# Altium footprint library Capacitors.PcbLib: 39 footprints (part 1 of 3)
Each footprint in its own frame and in the unit in brackets; x right, y up, seen from the top. Pads: shape width x height; smd on the part's side, far side on the other; paste and mask are expansions set on the pad; w line width, h text height; cw(c..) or ccw(c..) is an arc to the next point about the centre after c.
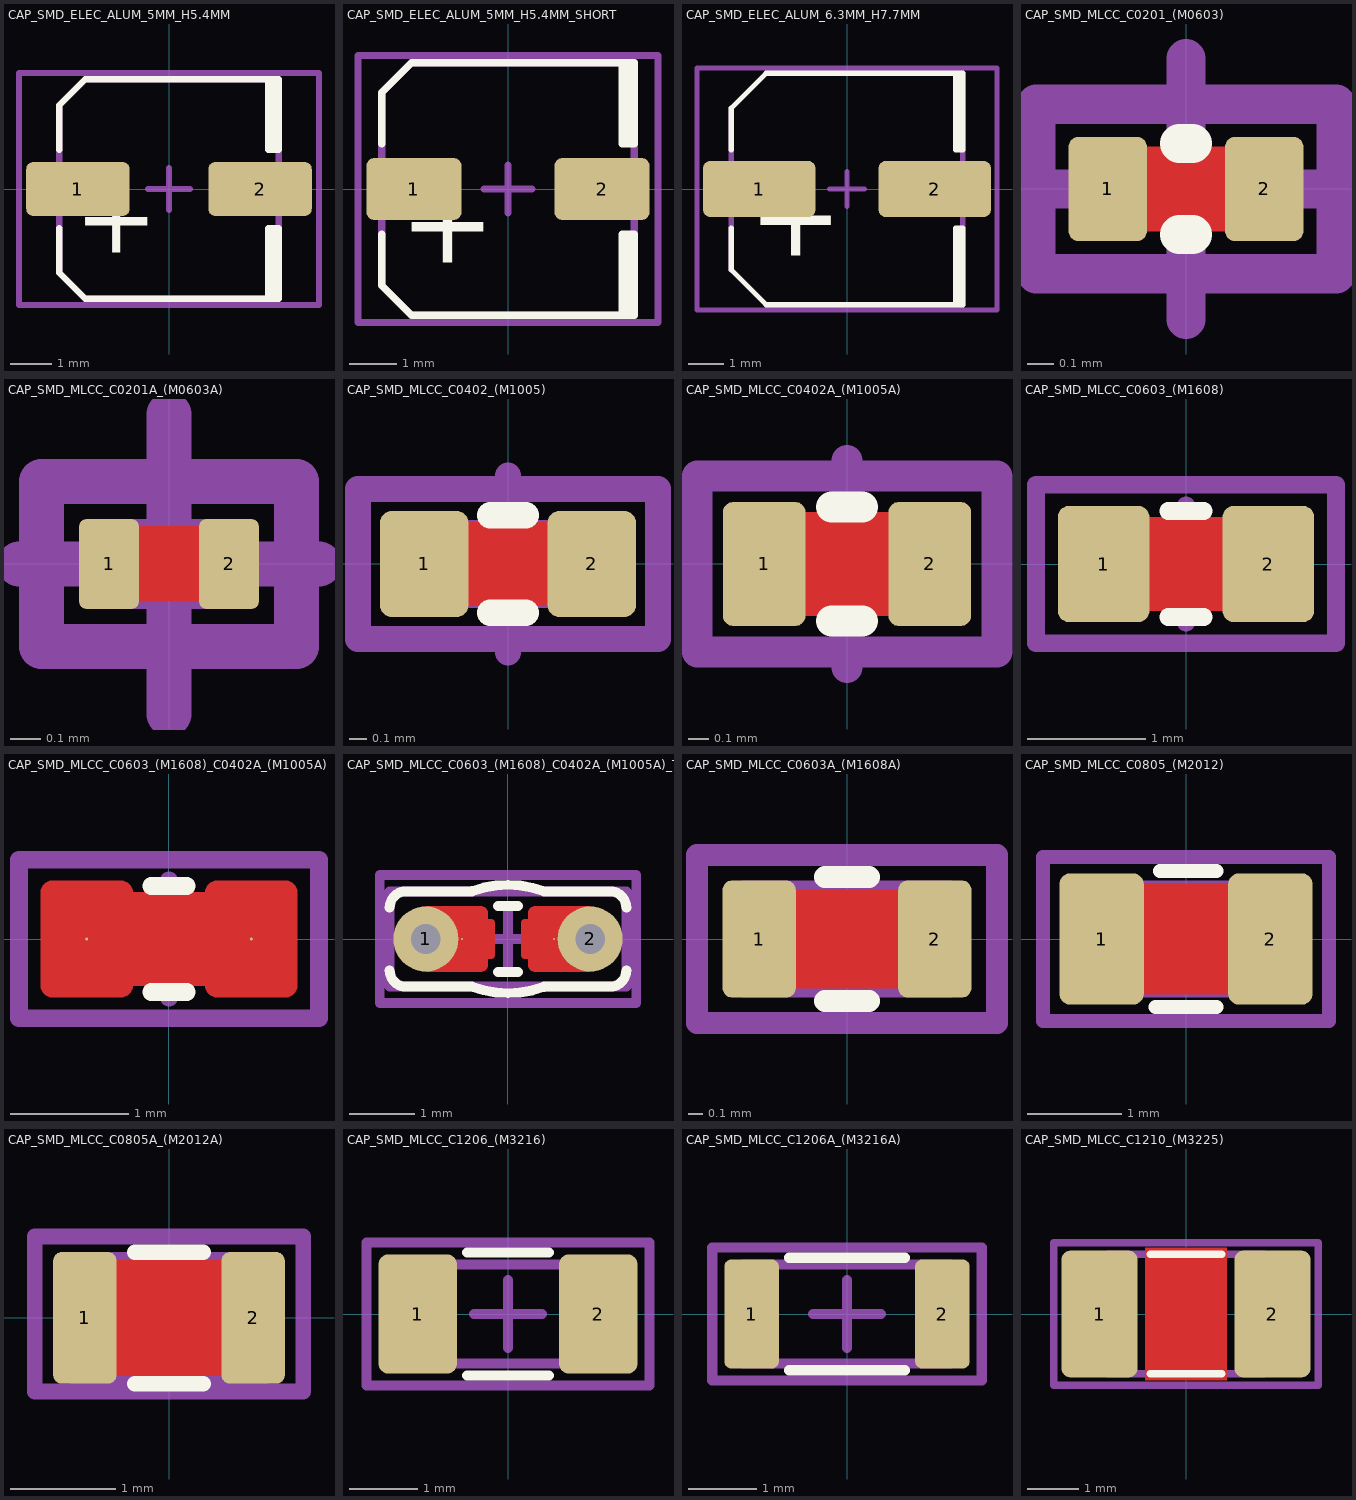
[diagram p0: the footprints below, top view; thin cyan lines are the x and y axes]

## CAP_SMD_ELEC_ALUM_5MM_H5.4MM [mm] "Aluminum SMD Electrolytic Capacitor, 5.30mm Land Size, 5.00mm Diameter, 4.60mm Height, 5.50mm Maximum Leads Span"
height 4.6
pads (2):
  rrect25% 2.5x1.3 smd: 1(-2.2,0) 2(2.2,0)
Top Overlay:
  lines w0.15: -2.65,-0.95 -2.65,-2.025 -2.025,-2.65 2.65,-2.65 2.65,-0.95 2.4,-0.95 2.4,-2.65 ; -2.65,0.95 -2.65,2.025 -2.025,2.65 2.65,2.65 2.65,0.95 2.4,0.95 2.4,2.65 ; 2.525,-2.65 2.525,-0.95 ; 2.525,0.95 2.525,2.65
  text "+" at -2.275,-2.125 h3
Top Designator:
  text ".Designator" at -2.503,-0.266 h1.3
Mechanical 13:
  lines w0.15: -2.65,-2.025 -2.65,2.025 -2.025,2.65 2.65,2.65 2.65,-2.65 -2.025,-2.65 -2.65,-2.025
Mechanical 15:
  lines w0.15: -0.5,0 0.5,0 ; 0,-0.5 0,0.5 ; -3.625,-2.8 -3.625,2.8 3.625,2.8 3.625,-2.8 -3.625,-2.8
3D body ".STEP": height 4.6, standoff 0, extent -2.75,-2.65 2.75,2.65

## CAP_SMD_ELEC_ALUM_5MM_H5.4MM_SHORT [mm] "Aluminum SMD Electrolytic Capacitor, 5.30mm Land Size, 5.00mm Diameter, 4.60mm Height, 5.50mm Maximum Leads Span"
height 4.6
pads (2):
  rrect25% 2x1.3 smd: 1(-1.975,0) 2(1.975,0)
Top Overlay:
  lines w0.15: -2.65,-0.95 -2.65,-2.025 -2.025,-2.65 2.65,-2.65 2.65,-0.95 2.4,-0.95 2.4,-2.65 ; -2.65,0.95 -2.65,2.025 -2.025,2.65 2.65,2.65 2.65,0.95 2.4,0.95 2.4,2.65 ; 2.525,-2.65 2.525,-0.95 ; 2.525,0.95 2.525,2.65
  text "+" at -2.275,-2.125 h3
Top Designator:
  text ".Designator" at -2.503,-0.266 h1.3
Mechanical 13:
  lines w0.15: -2.65,-2.025 -2.025,-2.65 2.65,-2.65 2.65,2.65 -2.025,2.65 -2.65,2.025 -2.65,-2.025
Mechanical 15:
  lines w0.15: -0.5,0 0.5,0 ; 0,-0.5 0,0.5 ; -3.15,-2.8 3.15,-2.8 3.15,2.8 -3.15,2.8 -3.15,-2.8
3D body ".STEP": height 4.6, standoff 0, extent -2.75,-2.65 2.75,2.65

## CAP_SMD_ELEC_ALUM_6.3MM_H7.7MM [mm] "Aluminum SMD Electrolytic Capacitor, D: 6.3mm L: 7.7mm, Size D"
pads (2):
  rrect25% 3.2x1.6 smd: 1(-2.5,0) 2(2.5,0)
Top Overlay:
  lines w0.15: -3.3,-1.12 -3.3,-2.3 -2.3,-3.3 3.3,-3.3 3.3,-1.12 3.1,-1.12 3.1,-3.3 ; -3.3,1.12 -3.3,2.3 -2.3,3.3 3.3,3.3 3.3,1.12 3.1,1.12 3.1,3.3 ; 3.2,-3.3 3.2,-1.12 ; 3.2,1.12 3.2,3.3
  text "+" at -2.8,-2.675 h4
Top Designator:
  text ".Designator" at -2.462,-0.29 h1.3
Mechanical 13:
  lines w0.15: -3.3,-2.3 -2.3,-3.3 3.3,-3.3 3.3,3.3 -2.3,3.3 -3.3,2.3 -3.3,-2.3
Mechanical 15:
  lines w0.15: -0.5,0 0.5,0 ; 0,-0.5 0,0.5 ; -4.275,-3.45 4.275,-3.45 4.275,3.45 -4.275,3.45 -4.275,-3.45
3D body "6.3x7.7x2.2.stp": height 7.7, standoff 0, extent -3.65,-3.3 3.65,3.3

## CAP_SMD_MLCC_C0201_(M0603) [mm] "CHIP Capacitor, 0.5x0.25mm"
height 0.33
pads (2):
  rrect25% 0.3x0.4 smd mask+0.05: 1(-0.3,0) 2(0.3,0)
Top Layer:
  pour cut-out: 0.2,0.162 -0.2,0.162 -0.2,-0.162 0.2,-0.162
Top Overlay:
  lines w0.15: -0.025,-0.175 0.025,-0.175 ; -0.025,0.175 0.025,0.175
Top Designator:
  text ".Designator" at -2.462,-0.29 h1.3
Mechanical 13:
  lines w0.15: -0.21,-0.075 0.22,-0.075 0.22,0.075 -0.21,0.075 -0.21,-0.075
Mechanical 15:
  lines w0.15: -0.5,0 0.5,0 ; 0,-0.5 0,0.5 ; -0.575,-0.325 0.575,-0.325 0.575,0.325 -0.575,0.325 -0.575,-0.325
3D body "C0201_035.step": height 0.35, standoff 0, extent -0.3,-0.15 0.3,0.15

## CAP_SMD_MLCC_C0201A_(M0603A) [mm] "CHIP Capacitor, 0.5x0.25mm, for PCBA"
pads (2):
  rrect25% 0.2x0.3 smd mask+0.05: 1(-0.2,0) 2(0.2,0)
Top Layer:
  pour cut-out: 0.2,0.125 -0.2,0.125 -0.2,-0.125 0.2,-0.125
Top Designator:
  text ".Designator" at -2.462,-0.29 h1.3
Mechanical 13:
  lines w0.15: -0.21,-0.075 0.22,-0.075 0.22,0.075 -0.21,0.075 -0.21,-0.075
Mechanical 15:
  lines w0.15: -0.5,0 0.5,0 ; 0,-0.5 0,0.5 ; -0.425,-0.275 0.425,-0.275 0.425,0.275 -0.425,0.275 -0.425,-0.275
3D body "C0201_035.step": height 0.35, standoff 0, extent -0.3,-0.15 0.3,0.15

## CAP_SMD_MLCC_C0402_(M1005) [mm] "CHIP Capacitor, 1.0x0.5mm, 0402"
height 0.52
pads (2):
  rrect25% 0.5x0.6 smd mask+0.05: 1(-0.475,0) 2(0.475,0)
Top Layer:
  pour cut-out: -0.325,0.238 0.325,0.238 0.325,-0.238 -0.325,-0.238
Top Overlay:
  lines w0.15: -0.1,-0.275 0.1,-0.275 ; -0.1,0.275 0.1,0.275
Top Designator:
  text ".Designator" at -2.462,-0.29 h1.3
Mechanical 13:
  lines w0.15: -0.425,-0.175 -0.425,0.175 0.425,0.175 0.425,-0.175 -0.425,-0.175
Mechanical 15:
  lines w0.15: -0.5,0 0.5,0 ; 0,-0.5 0,0.5 ; -0.85,-0.425 0.85,-0.425 0.85,0.425 -0.85,0.425 -0.85,-0.425
3D body "04023A0R8CAT2A.stp": height 0.56, standoff 0, extent -0.5,-0.25 0.5,0.25

## CAP_SMD_MLCC_C0402A_(M1005A) [mm] "CHIP Capacitor, 1.0x0.5mm, 0402, for PCBA"
height 0.4
pads (2):
  rrect25% 0.4x0.6 smd mask+0.05: 1(-0.4,0) 2(0.4,0)
Top Layer:
  pour cut-out: -0.325,0.25 0.325,0.25 0.325,-0.25 -0.325,-0.25
Top Overlay:
  lines w0.15: -0.075,-0.275 0.075,-0.275 ; -0.075,0.275 0.075,0.275
Top Designator:
  text ".Designator" at -2.462,-0.29 h1.3
Mechanical 13:
  lines w0.15: -0.425,-0.175 0.425,-0.175 0.425,0.175 -0.425,0.175 -0.425,-0.175
Mechanical 15:
  lines w0.15: -0.5,0 0.5,0 ; 0,-0.5 0,0.5 ; -0.725,-0.425 -0.725,0.425 0.725,0.425 0.725,-0.425 -0.725,-0.425
3D body "04023A0R8CAT2A.stp": height 0.56, standoff 0, extent -0.5,-0.25 0.5,0.25

## CAP_SMD_MLCC_C0603_(M1608) [mm] "CHIP Capacitor, 1.6x0.8mm, 0603"
height 0.89
pads (2):
  rrect25% 0.78x0.99 smd: 1(-0.7,0) 2(0.7,0)
Top Layer:
  pour cut-out: -0.407,0.397 0.407,0.397 0.407,-0.397 -0.407,-0.397
Top Overlay:
  lines w0.15: -0.15,-0.45 0.15,-0.45 ; -0.15,0.45 0.15,0.45
Top Designator:
  text ".Designator" at -2.503,-0.266 h1.3
Mechanical 13:
  lines w0.15: -0.7,-0.325 0.7,-0.325 0.7,0.325 -0.7,0.325 -0.7,-0.325
Mechanical 15:
  lines w0.15: -0.5,0 0.5,0 ; 0,-0.5 0,0.5 ; -1.275,-0.675 1.275,-0.675 1.275,0.675 -1.275,0.675 -1.275,-0.675
3D body "Ceramic_Capacitor_0603_h32mil.step": height 0.81, standoff 0.01, extent -0.8,-0.4 0.8,0.4

## CAP_SMD_MLCC_C0603_(M1608)_C0402A_(M1005A) [mil] "Resistor, SMD, 1.6x0.8mm, 0603"
pads (2):
  round 1 smd: 1(-27.56,0) 2(27.56,0)
Top Layer:
  pour cut-out: -16.04,15.65 16.04,15.65 16.04,-15.65 -16.04,-15.65
  region: -16.04,-19.49 -39.07,-19.49 -39.84,-19.49 -41.25,-18.9 -42.33,-17.83 -42.91,-16.41 -42.91,-15.65 -42.91,15.65 -42.91,16.41 -42.33,17.82 -41.25,18.9 -39.84,19.49 -39.08,19.49 -39.07,19.49 -16.04,19.49 -15.28,19.49 -13.87,18.9 -12.79,17.82 -12.21,16.41 -12.21,15.65 -12.2,15.65 -12.2,11.81 -9.84,11.81 -9.45,11.81 -8.73,11.51 -8.17,10.96 -7.87,10.23 -7.88,9.84 -7.87,9.84 -7.87,-9.84 -7.87,-10.23 -8.17,-10.96 -8.73,-11.51 -9.45,-11.81 -9.84,-11.81 -12.2,-11.81 -12.2,-15.65 -12.2,-16.41 -12.79,-17.82 -13.87,-18.91 -15.28,-19.49
  region: 16.04,-19.49 39.07,-19.49 39.84,-19.49 41.25,-18.9 42.33,-17.83 42.91,-16.41 42.91,-15.65 42.91,15.65 42.91,16.41 42.33,17.82 41.25,18.9 39.84,19.49 39.08,19.49 39.07,19.49 16.04,19.49 15.28,19.49 13.87,18.9 12.79,17.82 12.21,16.41 12.21,15.65 12.2,15.65 12.2,11.81 9.84,11.81 9.45,11.81 8.73,11.51 8.17,10.96 7.87,10.23 7.88,9.84 7.87,9.84 7.87,-9.84 7.87,-10.23 8.17,-10.96 8.73,-11.51 9.45,-11.81 9.84,-11.81 12.2,-11.81 12.2,-15.65 12.2,-16.41 12.79,-17.82 13.87,-18.91 15.28,-19.49
Top Overlay:
  lines w5.91: -5.91,-17.72 5.91,-17.72 ; -5.91,17.72 5.91,17.72
Top Designator:
  text ".Designator" at -98.53,-10.48 h51.18
Mechanical 13:
  lines w5.91: -27.56,-12.8 -27.56,12.8 27.56,12.8 27.56,-12.8 -27.56,-12.8
Mechanical 15:
  lines w5.91: -19.68,0 19.69,0 ; 0,-19.69 0,19.68 ; -50.2,-26.57 50.2,-26.57 50.2,26.57 -50.2,26.57 -50.2,-26.57
3D body "Ceramic_Capacitor_0603_h32mil.step": height 31.89, standoff 0.39, extent -31.5,-15.75 31.5,15.75

## CAP_SMD_MLCC_C0603_(M1608)_C0402A_(M1005A)_THD/SMD_SMD [mm] "Resistor, SMD, 1.6x0.8mm, 0603"
pads (4):
  round 0.99 hole 0.45: 1(-1.25,0) 2(1.25,0)
  round 0.025 smd: 1(-0.7,0) 2(0.7,0)
Top Layer:
  region: 0.408,-0.495 1.23,-0.495 1.249,-0.495 1.284,-0.481 1.311,-0.454 1.325,-0.419 1.325,-0.4 1.325,0.4 1.325,0.419 1.311,0.454 1.284,0.481 1.249,0.495 1.23,0.495 0.408,0.495 0.388,0.495 0.352,0.48 0.325,0.453 0.31,0.417 0.31,0.397 0.31,0.3 0.25,0.3 0.24,0.3 0.222,0.292 0.208,0.278 0.2,0.26 0.2,0.25 0.2,-0.25 0.2,-0.26 0.208,-0.278 0.222,-0.292 0.24,-0.3 0.25,-0.3 0.31,-0.3 0.31,-0.397 0.31,-0.417 0.325,-0.453 0.352,-0.48 0.388,-0.495
  region: -0.408,-0.495 -1.23,-0.495 -1.249,-0.495 -1.284,-0.481 -1.311,-0.454 -1.325,-0.419 -1.325,-0.4 -1.325,0.4 -1.325,0.419 -1.311,0.454 -1.284,0.481 -1.249,0.495 -1.23,0.495 -0.407,0.495 -0.388,0.495 -0.352,0.48 -0.325,0.453 -0.31,0.417 -0.31,0.397 -0.31,0.3 -0.25,0.3 -0.24,0.3 -0.222,0.292 -0.208,0.278 -0.2,0.26 -0.2,0.25 -0.2,-0.25 -0.2,-0.26 -0.208,-0.278 -0.222,-0.292 -0.24,-0.3 -0.25,-0.3 -0.31,-0.3 -0.31,-0.397 -0.31,-0.417 -0.325,-0.453 -0.352,-0.48 -0.388,-0.495
Top Overlay:
  lines w0.15: -1.8,-0.475 ccw(c-1.55,-0.475) -1.55,-0.725 -0.547,-0.725 ccw(c0.004,0.728) 0.547,-0.728 ; -1.8,0.475 cw(c-1.55,0.475) -1.55,0.725 -0.547,0.725 ; -0.547,0.728 cw(c-0.004,-0.728) 0.547,0.725 1.55,0.725 cw(c1.55,0.475) 1.8,0.475 ; 0.547,-0.725 1.55,-0.725 ccw(c1.55,-0.475) 1.8,-0.475
  lines w0.152: -0.15,-0.5 0.15,-0.5 ; -0.15,0.5 0.15,0.5
Top Designator:
  text ".Designator" at -2.503,-0.266 h1.3
Mechanical 13:
  lines w0.15: -1.8,-0.725 -1.8,0.725 1.8,0.725 1.8,-0.725 -1.8,-0.725
Mechanical 15:
  lines w0.15: -0.5,0 0.5,0 ; 0,-0.5 0,0.5 ; -1.95,-0.975 -1.95,0.975 1.95,0.975 1.95,-0.975 -1.95,-0.975
3D body "Ceramic_Capacitor_0603_h32mil.step": height 0.81, standoff 0.01, extent -0.8,-0.4 0.8,0.4

## CAP_SMD_MLCC_C0603A_(M1608A) [mm] "CHIP Capacitor, 1.6x0.8mm, 0603 for PCBA"
height 0.6
pads (2):
  rrect25% 0.5x0.8 smd: 1(-0.6,0) 2(0.6,0)
Top Layer:
  pour cut-out: -0.407,0.338 0.407,0.338 0.407,-0.338 -0.407,-0.338
Top Overlay:
  lines w0.15: -0.15,-0.425 0.15,-0.425 ; -0.15,0.425 0.15,0.425
Top Designator:
  text ".Designator" at -2.462,-0.29 h1.3
Mechanical 13:
  lines w0.15: -0.7,-0.325 0.7,-0.325 0.7,0.325 -0.7,0.325 -0.7,-0.325
Mechanical 15:
  lines w0.15: -0.5,0 0.5,0 ; 0,-0.5 0,0.5 ; -1.025,-0.575 1.025,-0.575 1.025,0.575 -1.025,0.575 -1.025,-0.575
3D body "Ceramic_Capacitor_0603_h32mil.step": height 0.81, standoff 0.01, extent -0.8,-0.4 0.8,0.4

## CAP_SMD_MLCC_C0805_(M2012) [mm] "CHIP Capacitor, 2.0x1.3mm, 0805"
pads (2):
  rrect25% 0.9x1.4 smd: 1(-0.9,0) 2(0.9,0)
Top Layer:
  pour cut-out: -0.55,0.588 -0.55,-0.588 0.575,-0.588 0.575,0.588
Top Overlay:
  lines w0.15: -0.325,-0.725 0.325,-0.725 ; -0.275,0.725 0.325,0.725
Top Designator:
  text ".Designator" at -2.462,-0.29 h1.3
Mechanical 13:
  lines w0.15: -0.925,-0.55 -0.925,0.55 0.925,0.55 0.925,-0.55 -0.925,-0.55
Mechanical 15:
  lines w0.15: -0.5,0 0.5,0 ; 0,-0.5 0,0.5 ; -1.525,-0.875 1.525,-0.875 1.525,0.875 -1.525,0.875 -1.525,-0.875
3D body "Ceramic_Capacitor_0805_h32mil.step": height 0.81, standoff 0.01, extent -1,-0.625 1,0.625

## CAP_SMD_MLCC_C0805A_(M2012A) [mm] "CHIP Capacitor, 2.0x1.3mm, 0805, for PCBA"
pads (2):
  rrect25% 0.6x1.25 smd: 1(-0.8,0) 2(0.8,0)
Top Layer:
  pour cut-out: -0.55,0.55 -0.55,-0.55 0.575,-0.55 0.575,0.55
Top Overlay:
  lines w0.15: -0.325,-0.625 0.325,-0.625 ; -0.325,0.625 0.325,0.625
Top Designator:
  text ".Designator" at -2.462,-0.29 h1.3
Mechanical 13:
  lines w0.15: -0.925,-0.55 0.925,-0.55 0.925,0.55 -0.925,0.55 -0.925,-0.55
Mechanical 15:
  lines w0.15: -0.5,0 0.5,0 ; 0,-0.5 0,0.5 ; -1.275,-0.7 -1.275,0.775 1.275,0.775 1.275,-0.7 -1.275,-0.7
3D body "Ceramic_Capacitor_0805_h32mil.step": height 0.81, standoff 0.01, extent -1,-0.625 1,0.625

## CAP_SMD_MLCC_C1206_(M3216) [mm] "CHIP Capacitor, 3.2x1.6mm, 1206"
pads (2):
  rrect25% 1.15x1.75 smd: 1(-1.325,0) 2(1.325,0)
Top Overlay:
  lines w0.15: -0.6,-0.9 0.6,-0.9 ; -0.6,0.9 0.6,0.9
Top Designator:
  text ".Designator" at -2.462,-0.29 h1.3
Mechanical 13:
  lines w0.15: -1.525,-0.725 1.525,-0.725 1.525,0.725 -1.525,0.725 -1.525,-0.725
Mechanical 15:
  lines w0.15: -0.5,0 0.5,0 ; 0,-0.5 0,0.5 ; -2.075,-1.05 -2.075,1.05 2.075,1.05 2.075,-1.05 -2.075,-1.05
3D body "Ceramic_Capacitor_1206_h38mil.step": height 0.96, standoff 0.01, extent -1.6,-0.8 1.6,0.8

## CAP_SMD_MLCC_C1206A_(M3216A) [mm] "CHIP Capacitor, 3.2x1.6mm, 1206, for PCBA"
height 2
pads (2):
  rrect25% 0.8x1.6 smd: 1(-1.4,0) 2(1.4,0)
Top Overlay:
  lines w0.15: -0.85,-0.825 0.85,-0.825 ; -0.85,0.825 0.85,0.825
Top Designator:
  text ".Designator" at -2.462,-0.29 h1.3
Mechanical 13:
  lines w0.15: -1.525,-0.725 -1.525,0.725 1.525,0.725 1.525,-0.725 -1.525,-0.725
Mechanical 15:
  lines w0.15: -0.5,0 0.5,0 ; 0,-0.5 0,0.5 ; -1.975,-0.975 1.975,-0.975 1.975,0.975 -1.975,0.975 -1.975,-0.975
3D body "Ceramic_Capacitor_1206_h38mil.step": height 0.96, standoff 0.01, extent -1.6,-0.8 1.6,0.8

## CAP_SMD_MLCC_C1210_(M3225) [mm] "CHIP Capacitor, 3.2X2.5mm, 1210, 3225"
pads (2):
  rrect25% 1.5x2.5 smd paste-0.2 mask+0.075: 1(-1.7,0) 2(1.7,0)
Top Layer:
  pour cut-out: -0.8,1.3 -0.8,-1.3 0.8,-1.3 0.8,1.3
Top Overlay:
  lines w0.15: -0.7,-1.175 0.7,-1.175 ; -0.7,1.175 0.7,1.175
Top Designator:
  text ".Designator" at -2.503,-0.266 h1.3
Mechanical 13:
  lines w0.15: -1.525,-1.175 -1.525,1.175 1.525,1.175 1.525,-1.175 -1.525,-1.175
Mechanical 15:
  lines w0.15: -0.5,0 0.5,0 ; 0,-0.5 0,0.5 ; -2.6,-1.4 -2.6,1.4 2.6,1.4 2.6,-1.4 -2.6,-1.4
3D body "User Library-CAPC3225X10.step": height 1, standoff 0, extent -1.6,-1.25 1.6,1.25